# Altium footprint library CAPC3216X140N.PcbLib: 1 footprints
Each footprint in its own frame and in the unit in brackets; x right, y up, seen from the top. Pads: shape width x height; smd on the part's side, far side on the other; paste and mask are expansions set on the pad; w line width, h text height; cw(c..) or ccw(c..) is an arc to the next point about the centre after c.
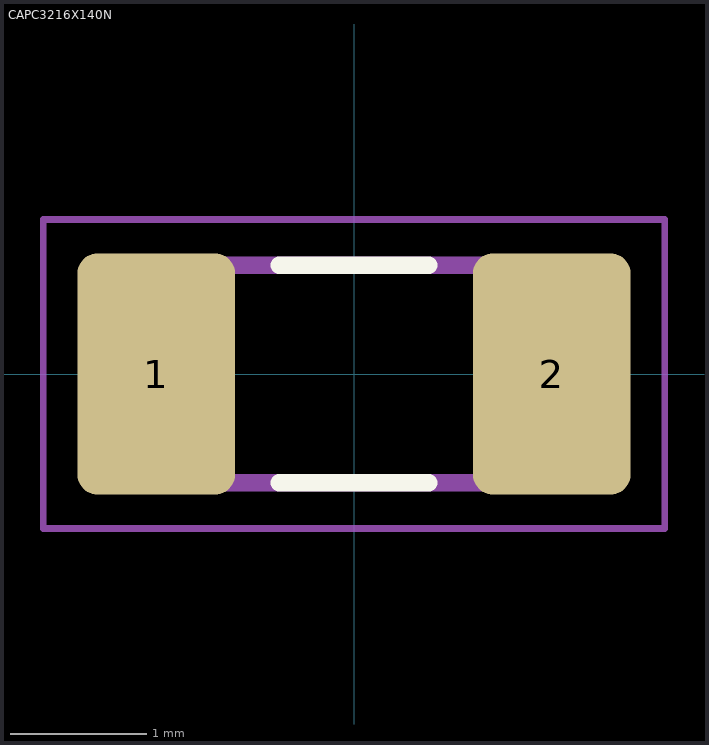
[diagram p0: the footprint, top view; thin cyan lines are the x and y axes]

## CAPC3216X140N [mm]
pads (2):
  rrect25% 1.16x1.77 smd: 1(-1.453,0) 2(1.453,0)
Top Overlay:
  lines w0.127: -0.55,-0.8 0.55,-0.8 ; -0.55,0.8 0.55,0.8
Assembly Top:
  lines w0.127: -1.6,-0.8 -1.6,0.8 1.6,0.8 1.6,-0.8 -1.6,-0.8
Courtyard Top:
  lines w0.05: -2.283,-1.135 -2.283,1.135 2.283,1.135 2.283,-1.135 -2.283,-1.135
3D body "step_temp.STEP": height 1.4, standoff 0, extent -1.6,-0.8 1.6,0.8